# Altium footprint library DIP254P762X420-16.PcbLib: 1 footprints
Each footprint in its own frame and in the unit in brackets; x right, y up, seen from the top. Pads: shape width x height; smd on the part's side, far side on the other; paste and mask are expansions set on the pad; w line width, h text height; cw(c..) or ccw(c..) is an arc to the next point about the centre after c.
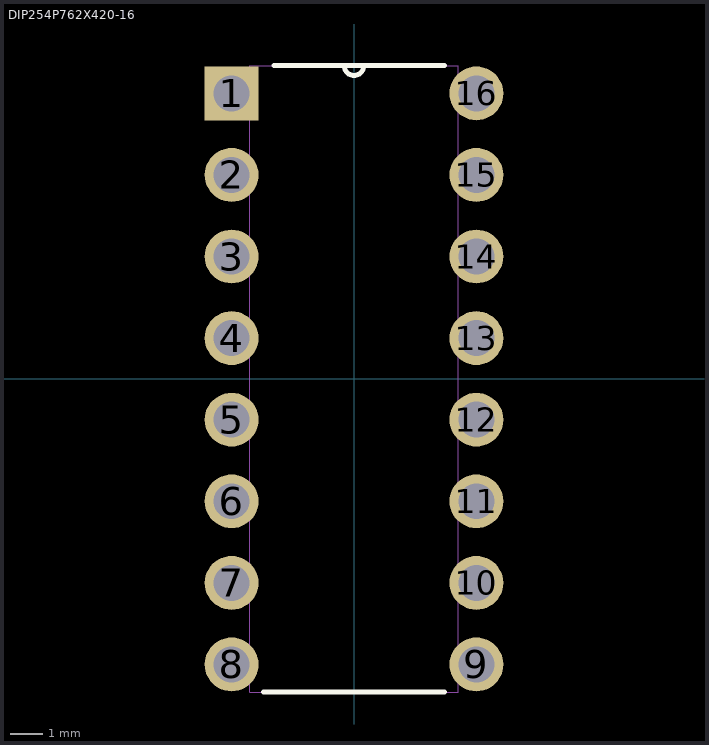
[diagram p0: the footprint, top view; thin cyan lines are the x and y axes]

## DIP254P762X420-16 [mil]
pads (16):
  rect 66x66 / inner round 66 / far side rect 66x66 hole 44: 1(-150,350)
  round 66 hole 44: 2(-150,250) 3(-150,150) 4(-150,50) 5(-150,-50) 6(-150,-150) 7(-150,-250) 8(-150,-350) 9(150,-350) 10(150,-250) 11(150,-150) 12(150,-50) 13(150,50) 14(150,150) 15(150,250) 16(150,350)
Top Overlay:
  lines w6: -111,-384 111,-384 ; -98,384 -12,384 ; 111,384 12,384 ; -12,384 ccw(c0,384) 12,384 ; -12,384 12,384
Mechanical 13:
  lines w0: -12,384 ccw(c0,384) 12,384 ; -12,384 -128,384 -128,-384 128,-384 128,384 12,384 ; -12,384 12,384 ; -172,-372 -128,-372 -128,-328 -172,-328 -172,-372 ; -172,-272 -172,-228 -128,-228 -128,-272 -172,-272 ; -172,-172 -128,-172 -128,-128 -172,-128 -172,-172 ; -172,-72 -172,-28 -128,-28 -128,-72 -172,-72 ; -172,28 -128,28 -128,72 -172,72 -172,28 ; -172,128 -128,128 -128,172 -172,172 -172,128 ; -172,228 -172,272 -128,272 -128,228 -172,228 ; -172,328 -172,372 -128,372 -128,328 -172,328 ; 128,-372 172,-372 172,-328 128,-328 128,-372 ; 128,-272 128,-228 172,-228 172,-272 128,-272 ; 128,-172 172,-172 172,-128 128,-128 128,-172 ; 128,-72 128,-28 172,-28 172,-72 128,-72 ; 128,28 128,72 172,72 172,28 128,28 ; 128,128 128,172 172,172 172,128 128,128 ; 128,228 128,272 172,272 172,228 128,228 ; 128,328 128,372 172,372 172,328 128,328
3D body "step_temp.STEP": height 165.35, standoff -130.91, extent -185.88,-374.51 185.88,374.51